# Altium integrated library MAX232ACPE_.IntLib: 1 symbol
Pins are listed as number, name and electrical type; pins without a type are passive.

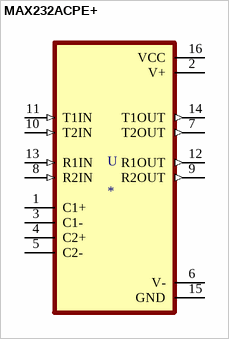
[diagram p0: symbol MAX232ACPE+]

## MAX232ACPE+
designator U
2/2 Transceiver Full RS232 16-PDIP; MP: MAX232ACPE; MF: Maxim Integrated; Package: DIP-16 Maxim Integrated; Value: *; SnapEDA_Link: https://www.snapeda.com/parts/MAX232ACPE/Maxim%20Integrated/view-part/294215/?ref=snap; Availability: Unavailable; Price: None
footprint DIP794W47P254L1943H457Q16
pins: 1 C1+, 2 V+ (power), 3 C1-, 4 C2+, 5 C2-, 6 V- (power), 7 T2OUT (out), 8 R2IN (in), 9 R2OUT (out), 10 T2IN (in), 11 T1IN (in), 12 R1OUT (out), 13 R1IN (in), 14 T1OUT (out), 15 GND (power), 16 VCC (power)